# Altium schematic symbol library My_LED.SchLib: 1 symbol
Pins are listed as number, name and electrical type; pins without a type are passive.

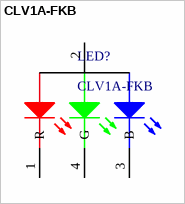
[diagram p0: symbol CLV1A-FKB]

## CLV1A-FKB
designator LED?
footprint PLCC4 (Footprint not found)
pins: 1 R, 2 A, 3 B, 4 G